# EAGLE library part RELAY-HLS-14F3L-DC12V-C (library Connector)
315990002
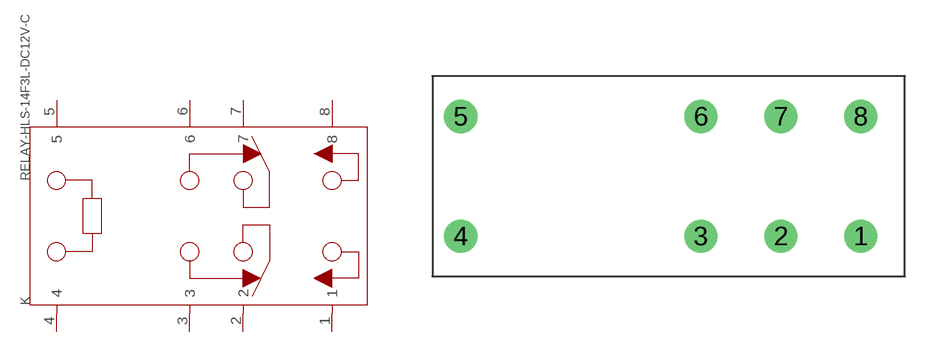
[diagram p22: symbol with the pads of 8P-29.2*12.4*20.4MM; footprint 8P-29.2*12.4*20.4MM]

Designator prefix K

## RELAY-HLS-14F3L-DC12V-C-HLS-14F3L-DC12V-C  [8P-29.2*12.4*20.4MM]
1  1
2  2
3  3
4  4
5  5
6  6
7  7
8  8

## Footprint 8P-29.2*12.4*20.4MM (pad centres in mm)
drill 1.3 pad 2.1: 1 11.557,-3.683; 2 6.477,-3.683; 3 1.397,-3.683; 4 -13.843,-3.683; 5 -13.843,3.917; 6 1.397,3.917; 7 6.477,3.917; 8 11.557,3.917